# Altium footprint library Isolated DC-DC converters.PcbLib: 3 footprints
Each footprint in its own frame and in the unit in brackets; x right, y up, seen from the top. Pads: shape width x height; smd on the part's side, far side on the other; paste and mask are expansions set on the pad; w line width, h text height; cw(c..) or ccw(c..) is an arc to the next point about the centre after c.
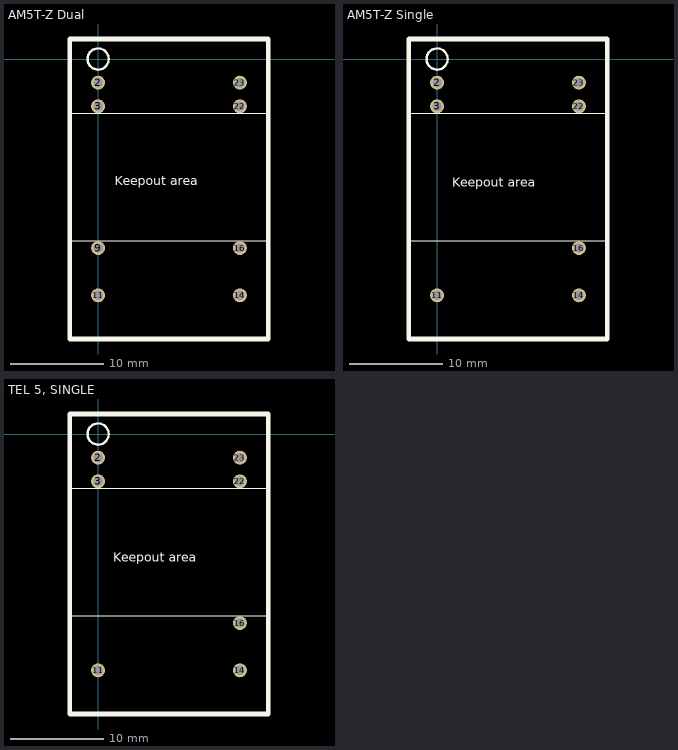
[diagram p0: the footprints below, top view; thin cyan lines are the x and y axes]

## AM5T-Z Dual [mm] "AM5T-Z Dual Series Isolated DC-DC converter"
height 11
pads (8):
  round 1.5 hole 1: 2(0,-2.54) 3(0,-5.08) 9(0,-20.32) 11(0,-25.4) 14(15.24,-25.4) 16(15.24,-20.32) 22(15.24,-5.08) 23(15.24,-2.54)
Top Overlay:
  circle w0.254: c0,0 r1.136
  lines w0.1: -3.048,-19.558 18.288,-19.558 ; -3.048,-5.842 18.288,-5.842
  lines w0.5: -3.048,-30.095 18.288,-30.095 18.288,2.155 -3.048,2.155 -3.048,-30.095
  text "Keepout area" at 1.778,-13.589 h1
3D body "AM8T-IZ.SLDPRT": height 10.2, standoff -3.8, extent -2.53,-29.87 17.77,1.93

## AM5T-Z Single [mm] "AM5T-Z Single Series Isolated DC-DC converter"
height 11
pads (7):
  round 1.5 hole 1: 2(0,-2.54) 3(0,-5.08) 11(0,-25.4) 14(15.24,-25.4) 16(15.24,-20.32) 22(15.24,-5.08) 23(15.24,-2.54)
Top Overlay:
  circle w0.254: c0,0 r1.136
  lines w0.1: -3.048,-19.558 18.288,-19.558 ; -3.048,-5.842 18.288,-5.842
  lines w0.5: -3.048,-30.095 -3.048,2.155 18.288,2.155 18.288,-30.095 -3.048,-30.095
  text "Keepout area" at 1.651,-13.716 h1
3D body "AM5T-Z.SLDPRT": height 10.2, standoff -3.8, extent -2.53,-29.997 17.77,1.803

## TEL 5, SINGLE [mm]
height 10.2
pads (7):
  round 1.5 hole 1: 2(0,-2.54) 3(0,-5.08) 11(0,-25.4) 14(15.24,-25.4) 16(15.24,-20.32) 22(15.24,-5.08) 23(15.24,-2.54)
Top Overlay:
  circle w0.254: c0,0 r1.136
  lines w0.1: -3.048,-19.558 18.288,-19.558 ; -3.048,-5.842 18.288,-5.842
  lines w0.5: -3.048,-30.095 -3.048,2.155 18.288,2.155 18.288,-30.095 -3.048,-30.095
  text "Keepout area" at 1.651,-13.716 h1
3D body "AM5T-Z.SLDPRT": height 10.2, standoff -3.8, extent -2.53,-29.997 17.77,1.803